# Altium schematic symbol library VBlib_Capacitors.SchLib: 35 symbols
Pins are listed as number, name and electrical type; pins without a type are passive.

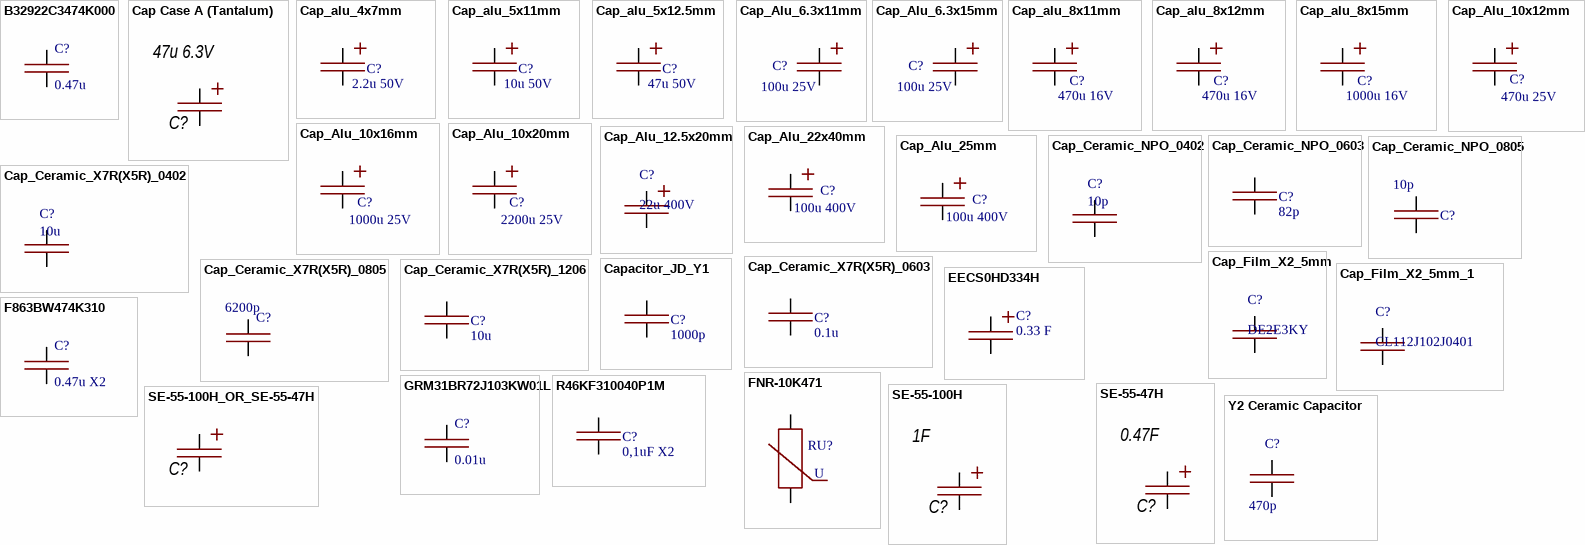
[diagram p0: symbols B32922C3474K000 to Y2 Ceramic Capacitor]

## B32922C3474K000
designator C?  value 0.47u  (hidden comment: B32922C3474K000)
Cap Film, X2, 0.47u, 10%, 305VAC, 9x17.5x18 (Epcos)
footprint B32922_0.47uF_Epcos
pins: 1, 2

## Cap Case A (Tantalum)
designator C?, comment value 47u 6.3V  (hidden comment: TAJA476K006RNJ)
Cap Tantalum, Case A (TECAP)
footprint CAP CASE A
pins: 1, 2
1 alternate drawing of the same symbol

## Cap_alu_4x7mm
designator C?, comment 2.2u 50V
Aluminium electrolitic capaсitor, radial, D=4mm, H=7mm, +105°C
footprint CE4x7-P1.5 (Конденсатор электролитический алюминиевый)
footprint CE4x7-P1.5_L (Radial aluminium capacitor)
pins: 1, 2

## Cap_alu_5x11mm
designator C?, comment 10u 50V
Aluminium electrolitic capaсitor, radial, D=5mm, H=11mm, +105°C
footprint CE5x11-P2.0 (Конденсатор электролитический алюминиевый)
pins: 1, 2

## Cap_alu_5x12.5mm
designator C?, comment 47u 50V
Aluminium electrolitic capaсitor, radial, D=5mm, H=12.5mm, +105°C
footprint CE5x12.5-P2.0 (Конденсатор электролитический алюминиевый)
pins: 1, 2

## Cap_Alu_6.3x11mm
designator C?, comment 100u 25V
Aluminium electrolitic capaсitor, radial, D=6.3mm, H=11mm, +105°C
footprint CE6x11MM-P2.5 (Конденсатор электролитический алюминиевый)
pins: 1, 2

## Cap_Alu_6.3x15mm
designator C?, comment 100u 25V
Aluminium electrolitic capaсitor, radial, D=6.3mm, H=15mm, +105°C
footprint CE6x15MM-P2.5 (Конденсатор электролитический алюминиевый)
pins: 1, 2

## Cap_alu_8x11mm
designator C?, comment 470u 16V
Aluminium electrolitic capaсitor, radial, D=8mm, H=11mm, +105°C
footprint CE6x11MM-P2.5 (Конденсатор электролитический алюминиевый)
footprint CE8x11MM_L
footprint CE8x11.5MM-P3.5 (Capacitor Radial aluminium capacitor)
pins: 1, 2

## Cap_alu_8x12mm
designator C?, comment 470u 16V
Aluminium electrolitic capaсitor, radial, D=8mm, H=12mm, +105°C
footprint CE8x12MM-P3.5 (Capacitor Radial aluminium capacitor)
footprint CE8x12MM-P3.5_L (Capacitor Radial aluminium capacitor)
pins: 1, 2

## Cap_alu_8x15mm
designator C?, comment 1000u 16V
Aluminium electrolitic capaсitor, radial, D=8mm, H=15mm, +105°C
footprint CE8x15MM-P3.5 (Конденсатор электролитический алюминиевый)
pins: 1, 2

## Cap_Alu_10x12mm
designator C?, comment 470u 25V
Aluminium electrolitic capaсitor, radial, D=10mm, H=12mm, +105°C
footprint CE10X12-P5.0
footprint CE8_OR_10MM_NO_3D_12.5MM-P3.5_5.0
pins: 1, 2

## Cap_Alu_10x16mm
designator C?, comment 1000u 25V
Aluminium electrolitic capaсitor, radial, D=10mm, H=16mm, +105°C
footprint CE10X16-P5.0
footprint CE8_OR_10MM_NO_3D_16MM-P3.5_5.0
pins: 1, 2

## Cap_Alu_10x20mm
designator C?, comment 2200u 25V
Aluminium electrolitic capaсitor, radial, D=10mm, H=20mm, +105°C
footprint CE10X20-P5.0
pins: 1, 2

## Cap_Alu_12.5x20mm
designator C?, comment 22u 400V
Aluminium electrolitic capaсitor, radial, D=12.5mm, H=20mm, +105°C
footprint CE12.5X20-P5.0
pins: 1, 2

## Cap_Alu_22x40mm
designator C?, comment 100u 400V
Aluminium electrolitic capaсitor, radial, D=22mm, H=40mm, +105°C
footprint CE22X40MM-P10
footprint CE18_22X40MM_UNI
pins: 1, 2

## Cap_Alu_25mm
designator C?, comment 100u 400V
Aluminium electrolitic capaсitor, radial low ESR, 25x25mm or 18x31.5mm or 22x30mm, +105°C
footprint CE18Х31.5_25X25MM_UNI
footprint CE18Х31.5_25X30MM_UNI
footprint CE18Х31.5_25X25MM_UNI_V2
footprint CE18Х31.5_25X25MM_UNI_V3
footprint CE18Х31.5_25X25MM_UNI_V4
footprint CE18Х31.5_25X25MM_UNI_V5
footprint CE18Х31.5_25X30MM_UNI_V7
pins: 1, 2

## Cap_Ceramic_NPO_0402
designator C?, comment 10p
Cap Ceramic, 0402, 5%, 50V, NPO (C0G), -55 +125C
footprint C0402 (Chip Capacitor, Body 1.0x0.5mm IPC Medium Density)
pins: 1, 2

## Cap_Ceramic_NPO_0603
designator C?, comment 82p
Cap Ceramic, 0603, 5%, 50V, NPO (C0G), -55 +125C
footprint C0603 (Chip Capacitor, Body 1.6x0.8mm IPC Medium Density)
pins: 1, 2

## Cap_Ceramic_NPO_0805
designator C?, comment 10p
Cap Ceramic, 0805, 5%, 50V, NPO (C0G), -55 +125C
footprint C0805 (Chip Capacitor, Body 2.0x1.3mm, IPC High Density)
pins: 1, 2

## Cap_Ceramic_X7R(X5R)_0402
designator C?, comment 10u
Cap Ceramic, 0603, ±10%, 50V, X7R (X5R), -55 +125C (-55 +85C)
footprint C0402 (Chip Capacitor, Body 1.0x0.5mm IPC Medium Density)
pins: 1, 2

## Cap_Ceramic_X7R(X5R)_0603
designator C?, comment 0.1u
Cap Ceramic, 0603, ±10%, 50V, X7R (X5R), -55 +125C (-55 +85C)
footprint C0603 (Chip Capacitor, Body 1.6x0.8mm IPC Medium Density)
pins: 1, 2

## Cap_Ceramic_X7R(X5R)_0805
designator C?, comment 6200p
Cap Ceramic, 0805, ±10%, 50V, X7R (X5R), -55 +125C (-55 +85C)
footprint C0805 (Chip Capacitor, Body 2.0x1.3mm, IPC High Density)
pins: 1, 2

## Cap_Ceramic_X7R(X5R)_1206
designator C?, comment 10u
Cap Ceramic, 1206, ±10%, 50V, X7R (X5R), -55 +125C (-55 +85C)
footprint C1206 (Chip Capacitor, Body 3.2x1.6mm, IPC High Density)
pins: 1, 2

## Cap_Film_X2_5mm
designator C?, comment DE2E3KY
Cap Film X1,Y2
footprint Varistor 5mm (Площадка под Варистор, шаг 5мм)
pins: 1, 2

## Cap_Film_X2_5mm_1
designator C?, comment CL112J102J0401
1nF ±5% 630V 4.5 -40℃ ~ +85℃ Through Hole, P=4.5mm Mylar Capacitor
footprint Mylar_5.5x3.5x9_P4.5 (Mylar film capacitor, Pitch=4.5mm)
pins: 1, 2

## Capacitor_JD_Y1
designator C?, comment JD102MY1  (value not drawn)
1000p, Y1 Package Safety Standard Disc Ceramic Capacitors
footprint CAP_Y1_10mm_JD
pins: 1, 2
text: 1000p

## EECS0HD334H
designator C?  value 0.33 F  (hidden comment: EECS0HD334H)
ION, 0.33 F, ±30%, 5.5VDC, 1000h (Panasonic)
footprint 1207H (Electric Double Layer Capacitors)
pins: 1, 2

## F863BW474K310
designator C?, comment value 0.47u X2  (hidden comment: F863BW474K310ALW0L)
Cap Film, X2, 0.47u, 10%, 310VAC, 11x18x19 (Kemet)
footprint F863BW474K310ALW0L
pins: 1, 2

## FNR-10K471
designator RU?  (value not drawn)
VARISTOR, 385VDC, 300VAC, 70J, 0.4W, 230pF, D10mm (FENGHUA)
footprint Varistor D10, P=7.5mm (Площадка под Варистор диаметром 10мм, шаг 7.5мм)
pins: 1, 2
text: U

## GRM31BR72J103KW01L
designator C?  value 0.01u  (hidden comment: GRM31BR72J103KW01L)  (no BOM)
Cap Ceramic, 1206, 0.01u, 10%, 630V, KX7R (ф. Murata)
footprint C1206 (Chip Capacitor, Body 3.2x1.6mm, IPC High Density)
pins: 1, 2

## R46KF310040P1M
designator C?, comment 0,1uF X2
Film Capacitor X2, 275V/560V 0,1uF ±20% (Kemet)
footprint CAP_FILM_5.3X12.8 (PITCH=10mm)
pins: 1, 2

## SE-55-47H
designator C?  value 0.47F  (hidden comment: SE-55-47H)
0.47F 5.5V SUPER CAPACITOR; Group: Конденсаторы; Name: SE-55-47H
footprint ION_0.47F
pins: 1, 2
1 alternate drawing of the same symbol

## SE-55-100H
designator C?  value 1F  (hidden comment: SE-55-100H)
1F 5.5V SUPER CAPACITOR; Group: Конденсаторы; Name: SE-55-100H
footprint ION_1F
pins: 1, 2
1 alternate drawing of the same symbol

## SE-55-100H_OR_SE-55-47H
designator C?, comment SE-55-100H  (value not drawn)
1F 5.5V SUPER CAPACITOR; Group: Конденсаторы; Value: 1F 5.5V; Name: SE-55-100H
footprint ION_1F_0.47F
pins: 1, 2
1 alternate drawing of the same symbol

## Y2 Ceramic Capacitor
designator C?, comment CS45SL2GA470JYNKA  (value not drawn)
Y2 Package Safety Standard Disc Ceramic Capacitors, Pitch=7.5mm
footprint CAP_Y2_7.5mm (Y2 Safety Capacitor)
pins: 1, 2
text: 470p